# Altium footprint library soldering.PcbLib: 1 footprints
Each footprint in its own frame and in the unit in brackets; x right, y up, seen from the top. Pads: shape width x height; smd on the part's side, far side on the other; paste and mask are expansions set on the pad; w line width, h text height; cw(c..) or ccw(c..) is an arc to the next point about the centre after c.
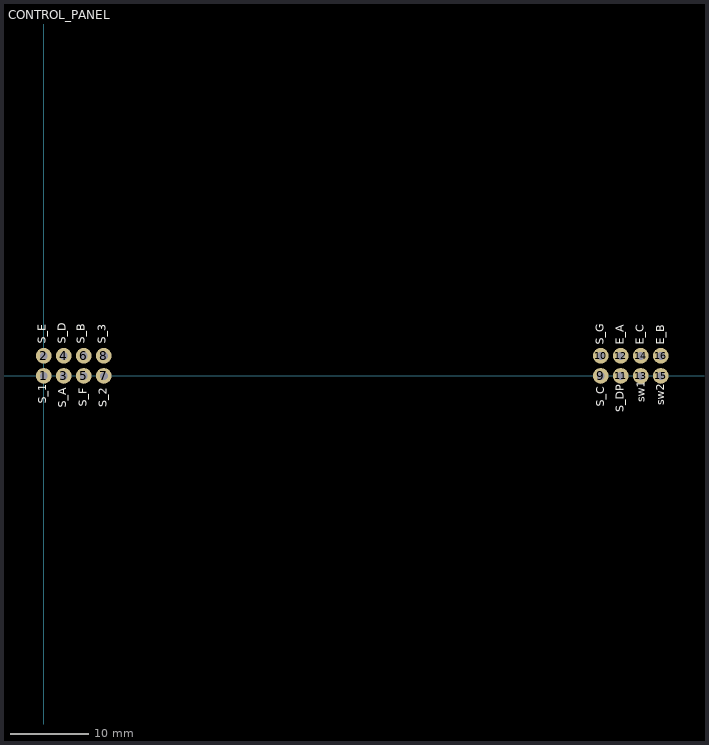
[diagram p0: the footprint, top view; thin cyan lines are the x and y axes]

## CONTROL_PANEL [mm]
pads (16):
  round 2 hole 1: 1(0,0) 2(0,2.54) 3(2.54,0) 4(2.54,2.54) 5(5.08,0) 6(5.08,2.54) 7(7.62,0) 8(7.62,2.54) 9(70.612,0) 10(70.612,2.54) 11(73.152,0) 12(73.152,2.54) 13(75.692,0) 14(75.692,2.54) 15(78.232,0) 16(78.232,2.54)
Top Overlay:
  text "S_2" at 7.977,-3.994 h1
  text "S_F" at 5.481,-3.9 h1
  text "S_A" at 2.835,-4.039 h1
  text "S_1" at 0.352,-3.555 h1
  text "S_3" at 7.872,4.104 h1
  text "S_B" at 5.205,4.104 h1
  text "S_D" at 2.792,4.104 h1
  text "S_E" at 0.252,4.104 h1
  text "S_DP" at 73.555,-4.626 h1
  text "sw1" at 76.177,-3.345 h1
  text "sw2" at 78.671,-3.745 h1
  text "E_B" at 78.664,3.948 h1
  text "E_C" at 76.084,3.932 h1
  text "E_A" at 73.555,3.948 h1
  text "S_G" at 71.022,3.948 h1
  text "S_C" at 71.058,-3.913 h1
3D body: height 5.08, standoff -2.99, extent -1.27,-10.02 8.89,2.865
3D body: height 5.08, standoff -2.99, extent 69.342,-10.02 79.502,2.865
3D body: height 19.06, standoff -5.94, extent -1.397,-20.702 79.629,7.798